# Altium schematic symbol library Master_SchLib.SchLib: 17 symbols
Pins are listed as number, name and electrical type; pins without a type are passive.

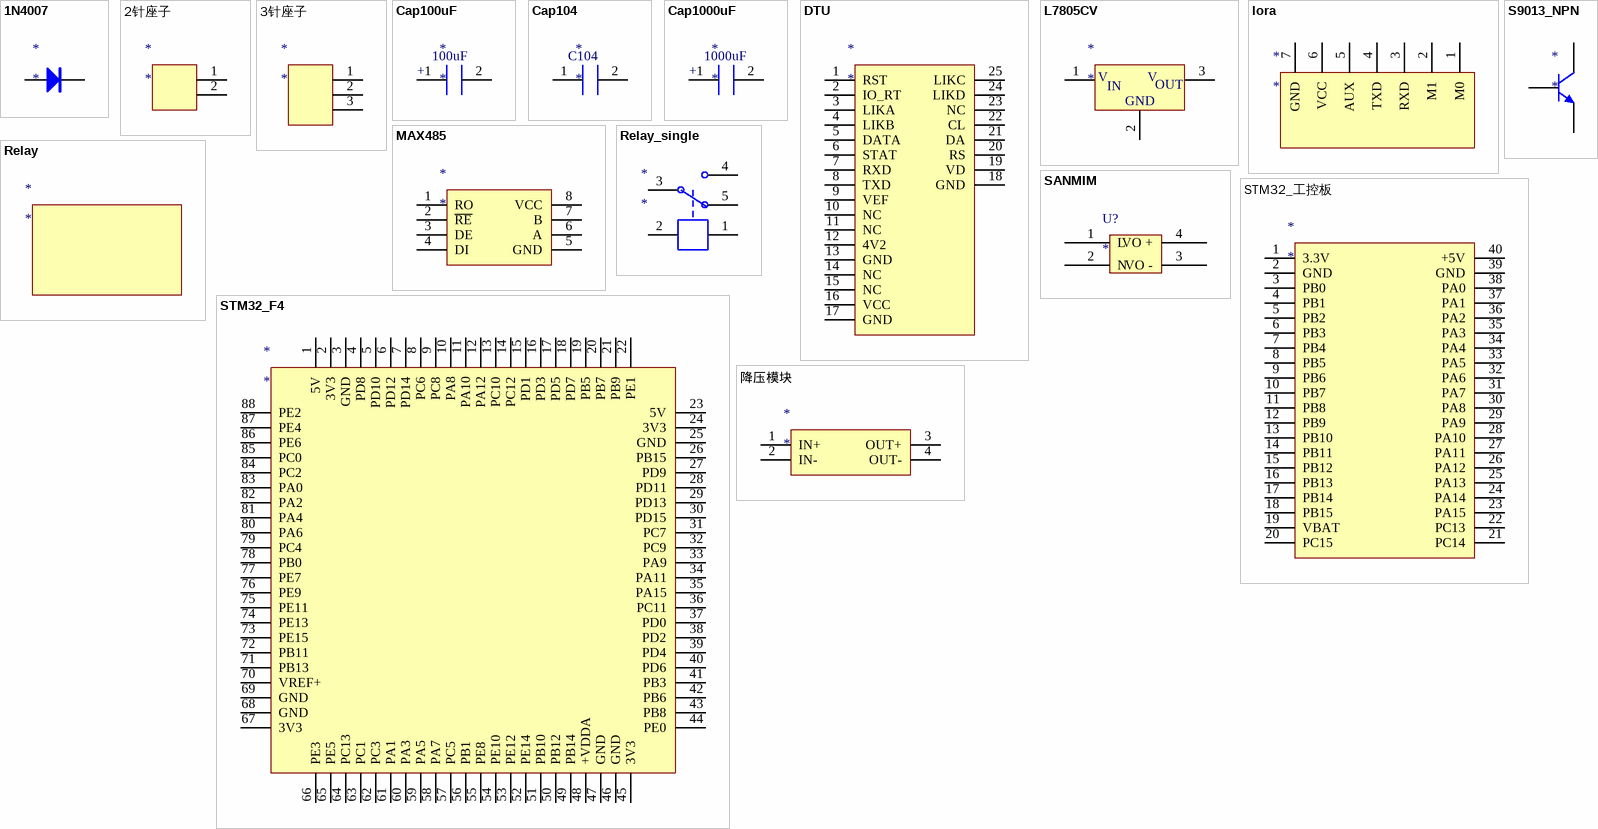
[diagram p0: symbols 1N4007 to 降压模块]

## 1N4007
designator *
footprint 1N4007
pins: 1 A, 2 K

## 2针座子
designator *
footprint 2针座子
footprint 485_座子
pins: 1, 2

## 3针座子
designator *
footprint 3针座子
pins: 1, 2, 3

## Cap100uF
designator *
footprint Cap100uF
pins: 1, 2
text: 100uF; +

## Cap104
designator *
footprint Cap104
pins: 1, 2
text: C104

## Cap1000uF
designator *
footprint Cap1000uF
pins: 1, 2
text: 1000uF; +

## DTU
designator *
footprint DTU
pins: 1 RST, 2 IO_RT, 3 LIKA, 4 LIKB, 5 DATA, 6 STAT, 7 RXD, 8 TXD, 9 VEF, 10 NC, 11 NC, 12 4V2, 13 GND, 14 NC, 15 NC, 16 VCC, 17 GND, 18 GND, 19 VD, 20 RS, 21 DA, 22 CL, 23 NC, 24 LIKD, 25 LIKC

## L7805CV
designator *
footprint L7805CV
pins: 1 VIN, 2 GND, 3 VOUT
text: V; IN; OUT

## lora
designator *
footprint loara
pins: 1 M0, 2 M1, 3 RXD, 4 TXD, 5 AUX, 6 VCC, 7 GND

## MAX485
designator *
footprint SOP8
pins: 1 RO, 2 ~{RE}, 3 DE, 4 DI, 5 GND, 6 A, 7 B, 8 VCC

## Relay
designator *
footprint Relay

## Relay_single
designator *
footprint Relay_single
pins: 1, 2, 3, 4, 5

## S9013_NPN
designator *
footprint S9013_NPN
pins: 1 E, 2 B, 3 C

## SANMIM
designator U?
footprint 2针宽座子
pins: 1 L (oe), 2 N (oe), 3 VO - (oe), 4 VO + (oe)

## STM32_F4
designator *
footprint STM32_F4
pins: 1 5V, 2 3V3, 3 GND, 4 PD8, 5 PD10, 6 PD12, 7 PD14, 8 PC6, 9 PC8, 10 PA8, 11 PA10, 12 PA12, 13 PC10, 14 PC12, 15 PD1, 16 PD3, 17 PD5, 18 PD7, 19 PB5, 20 PB7, 21 PB9, 22 PE1, 23 5V, 24 3V3, 25 GND, 26 PB15, 27 PD9, 28 PD11, 29 PD13, 30 PD15, 31 PC7, 32 PC9, 33 PA9, 34 PA11, 35 PA15, 36 PC11, 37 PD0, 38 PD2, 39 PD4, 40 PD6, 41 PB3, 42 PB6, 43 PB8, 44 PE0, 45 3V3, 46 GND, 47 GND, 48 +VDDA, 49 PB14, 50 PB12, 51 PB10, 52 PE14, 53 PE12, 54 PE10, 55 PE8, 56 PB1, 57 PC5, 58 PA7, 59 PA5, 60 PA3, 61 PA1, 62 PC3, 63 PC1, 64 PC13, 65 PE5, 66 PE3, 67 3V3, 68 GND, 69 GND, 70 VREF+, 71 PB13, 72 PB11, 73 PE15, 74 PE13, 75 PE11, 76 PE9, 77 PE7, 78 PB0, 79 PC4, 80 PA6, 81 PA4, 82 PA2, 83 PA0, 84 PC2, 85 PC0, 86 PE6, 87 PE4, 88 PE2

## STM32_工控板
designator *
footprint STM32工控板
pins: 1 3.3V, 2 GND, 3 PB0, 4 PB1, 5 PB2, 6 PB3, 7 PB4, 8 PB5, 9 PB6, 10 PB7, 11 PB8, 12 PB9, 13 PB10, 14 PB11, 15 PB12, 16 PB13, 17 PB14, 18 PB15, 19 VBAT, 20 PC15, 21 PC14, 22 PC13, 23 PA15, 24 PA14, 25 PA13, 26 PA12, 27 PA11, 28 PA10, 29 PA9, 30 PA8, 31 PA7, 32 PA6, 33 PA5, 34 PA4, 35 PA3, 36 PA2, 37 PA1, 38 PA0, 39 GND, 40 +5V

## 降压模块
designator *
footprint 降压模块
pins: 1 IN+, 2 IN-, 3 OUT+, 4 OUT-